# Altium footprint library Arduino_PcbLib1.PcbLib: 26 footprints (part 2 of 2)
Each footprint in its own frame and in the unit in brackets; x right, y up, seen from the top. Pads: shape width x height; smd on the part's side, far side on the other; paste and mask are expansions set on the pad; w line width, h text height; cw(c..) or ccw(c..) is an arc to the next point about the centre after c.
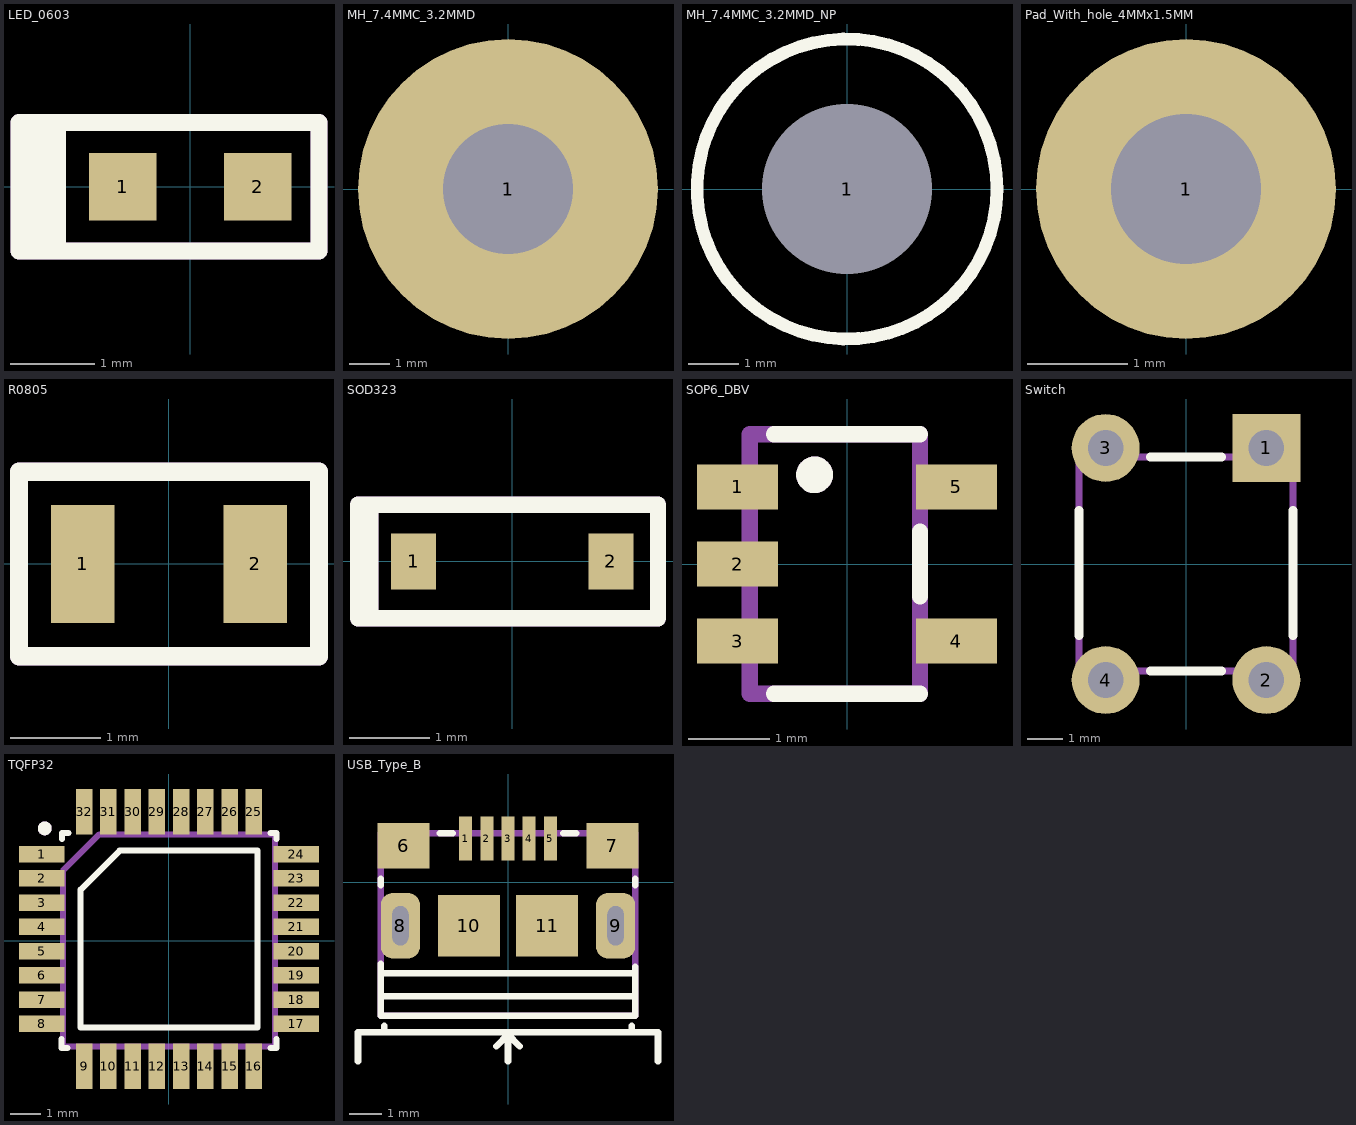
[diagram p1: the footprints below, top view; thin cyan lines are the x and y axes]

## LED_0603 [mm]
pads (2):
  rect 0.8x0.8 smd: 1(-0.8,0) 2(0.8,0)
Top Overlay:
  rectangle: -2.032,-0.813 -1.473,0.762
  lines w0.2: -2.032,-0.762 -2.032,0.762 1.524,0.762 1.524,-0.762 -2.032,-0.762
Top Assembly:
  rectangle: -2.032,-0.813 -1.473,0.762
  lines w0.2: -2.032,-0.762 -2.032,0.762 1.524,0.762 1.524,-0.762 -2.032,-0.762
  text "'.Designator'" at -3.991,-0.226 h0.7
3D body "LED SMD 0603.step": height 0.66, standoff 0.01, extent -0.85,-0.4 0.85,0.4
3D body: height 0.7, standoff 0.66, extent -0.3,-0.3 0.3,0.3

## MH_7.4MMC_3.2MMD [mm]
pads (1):
  round 7.4 hole 3.2: 1(0,0)

## MH_7.4MMC_3.2MMD_NP [mm]
pads (1):
  round 3.2 hole 3.4 unplated: 1(0,0)
Top Overlay:
  circle w0.254: c0,0 r3

## Pad_With_hole_4MMx1.5MM [mm]
pads (1):
  round 3 hole 1.5: 1(0,0)

## R0805 [mm]
pads (2):
  rect 0.7x1.3 smd: 1(-0.95,0) 2(0.95,0)
Top Overlay:
  lines w0.2: -1.651,-1.016 -1.651,1.016 1.651,1.016 1.651,-1.016 -1.651,-1.016
Top Assembly:
  lines w0.2: -1.651,-1.016 -1.651,1.016 1.651,1.016 1.651,-1.016 -1.651,-1.016
  text "'.Designator'" at -3.725,-0.192 h0.7
3D body "RESC2012X70N EIA 0805.step": height 0.71, standoff 0.01, extent -1,-0.6 1,0.6

## SOD323 [mil]
pads (2):
  rect 22x27 smd: 1(-48,0) 2(48,0)
Top Overlay:
  rectangle: -75,-30 -65,27.56
  lines w7.87: -75,-27.56 -75,27.56 70.87,27.56 70.87,-27.56 -75,-27.56
Top Assembly:
  rectangle: -75,-30 -65,27.56
  lines w7.87: -75,-27.56 -75,27.56 70.87,27.56 70.87,-27.56 -75,-27.56
  text "'.Designator'" at -156.12,-1.88 h27.56
3D body "SOD323.step": height 39.37, standoff 0.39, extent -49.21,-25 49.21,24.21

## SOP6_DBV [mm]
pads (5):
  rect 1x0.55 smd: 1(-1.35,0.95) 2(-1.35,0) 3(-1.35,-0.95) 4(1.35,-0.95) 5(1.35,0.95)
Top Overlay:
  circle w0.254: c-0.4,1.1 r0.1
  lines w0.2: -0.9,-1.6 0.9,-1.6 ; -0.9,1.6 0.9,1.6 ; 0.9,-0.4 0.9,0.4
Top Assembly:
  circle w0.254: c-0.4,1.1 r0.1
  lines w0.2: -1.2,-1.6 -1.2,1.6 0.9,1.6 0.9,-1.6 -1.2,-1.6
  text "'.Designator'" at -3.965,-0.367 h0.7
3D body "DBV.step": height 1.59, standoff -0.03, extent -1.513,-1.525 1.514,1.525

## Switch [mm]
pads (4):
  rect 1.9x1.9 hole 1: 1(2.25,3.25)
  round 1.9 hole 1: 2(2.25,-3.25) 3(-2.25,3.25) 4(-2.25,-3.25)
Top Overlay:
  lines w0.25: -3,-2 -3,1.5 ; -1,-3 1,-3 ; -1,3 1,3 ; 3,-2 3,1.5
Top Assembly:
  lines w0.2: -3,-3 3,-3 3,3 -3,3 -3,-3
  text "'.Designator'" at -3.965,0.333 h0.7
3D body "FSM4JLH(1825910-5).step": height 5.1, standoff -3.41, extent -2.995,-3.898 2.995,3.9

## TQFP32 [mm]
pads (32):
  rect 1.5x0.55 smd mask+0.06: 1(-4.2,2.85) 2(-4.2,2.05) 3(-4.2,1.25) 4(-4.2,0.45) 5(-4.2,-0.35) 6(-4.2,-1.15) 7(-4.2,-1.95) 8(-4.2,-2.75) 17(4.2,-2.75) 18(4.2,-1.95) 19(4.2,-1.15) 20(4.2,-0.35) 21(4.2,0.45) 22(4.2,1.25) 23(4.2,2.05) 24(4.2,2.85)
  rect 0.55x1.5 smd mask+0.06: 9(-2.8,-4.15) 10(-2,-4.15) 11(-1.2,-4.15) 12(-0.4,-4.15) 13(0.4,-4.15) 14(1.2,-4.15) 15(2,-4.15) 16(2.8,-4.15) 25(2.8,4.25) 26(2,4.25) 27(1.2,4.25) 28(0.4,4.25) 29(-0.4,4.25) 30(-1.2,4.25) 31(-2,4.25) 32(-2.8,4.25)
Top Overlay:
  circle w0.254: c-4.1,3.7 r0.1
  lines w0.2: -3.55,-3.25 -3.55,-3.55 -3.35,-3.55 ; -3.525,3.35 -3.525,3.55 -3.325,3.55 ; 3.35,-3.55 3.55,-3.55 3.55,-3.25 ; 3.35,3.55 3.55,3.55 3.55,3.35 ; -2.915,-2.865 -2.915,1.68 -1.63,2.965 2.915,2.965 2.915,-2.865 -2.915,-2.865
Top Assembly:
  circle w0.254: c-4.1,3.7 r0.1
  lines w0.2: -3.5,-3.5 -3.5,2.3 -2.3,3.5 3.5,3.5 3.5,-3.5 -3.5,-3.5
  text "'.Designator'" at -4.065,-0.367 h0.7
3D body "tqfp32.step": height 1.2, standoff 0, extent -4.599,-4.551 4.599,4.648

## USB_Type_B [mm]
pads (11):
  rect 0.4x1.35 smd mask+0.05: 1(-1.3,1.338) 2(-0.65,1.338) 3(0,1.338) 4(0.65,1.338) 5(1.3,1.338)
  rect 1.6x1.4 smd: 6(-3.2,1.112) 7(3.2,1.112)
  rrect60% 1.2x2 hole 0.5 slot 1.2 at 90 deg: 8(-3.3,-1.338) 9(3.3,-1.338)
  rect 1.9x1.9 smd: 10(-1.2,-1.338) 11(1.2,-1.338)
Top Overlay:
  lines w0.2: -4.6,-5.5 -4.6,-4.6 4.6,-4.6 4.6,-5.5 ; -3.9,-3.5 3.9,-3.5 ; -3.9,-2.8 3.9,-2.8 ; -3.9,-2.5 -3.9,-4.1 3.9,-4.1 3.9,-2.6 ; -3.9,-0.1 -3.9,0.1 ; -3.8,-4.6 -3.8,-4.4 ; -2.1,1.5 -1.7,1.5 ; -0.356,-5.029 0,-4.674 ; 0,-5.5 0,-4.6 0,-4.674 ; 0.356,-5.029 0,-4.674 ; 1.7,1.5 2.1,1.5 ; 3.8,-4.5 3.8,-4.4 ; 3.9,-0.1 3.9,0.1
Top Assembly:
  lines w0.2: -3.9,-4.1 -3.9,1.5 3.9,1.5 3.9,-4.1 -3.9,-4.1
  text "'.Designator'" at -3.965,0.333 h0.7
3D body "10118193-0001lfc.stp": height 2.81, standoff -0.79, extent -3.928,-4.123 3.928,1.538